# Altium footprint library ICS-40300.PcbLib: 1 footprints
Each footprint in its own frame and in the unit in brackets; x right, y up, seen from the top. Pads: shape width x height; smd on the part's side, far side on the other; paste and mask are expansions set on the pad; w line width, h text height; cw(c..) or ccw(c..) is an arc to the next point about the centre after c.
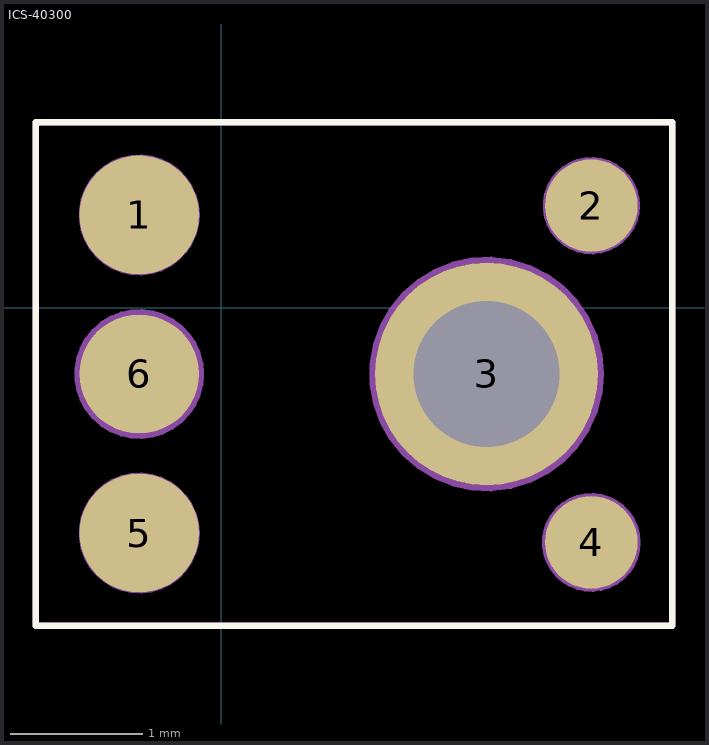
[diagram p0: the footprint, top view; thin cyan lines are the x and y axes]

## ICS-40300 [mm]
pads (7):
  round 0.9 smd mask+0: 1(-0.62,0.7) 5(-0.62,-1.7) 6(-0.62,-0.5)
  round 0.7 smd mask+0: 2(2.79,0.77) 4(2.79,-1.77)
  round 1.68 smd mask+0: 3(2,-0.5)
  round 0.9 hole 1.1 mask+0: ""(2,-0.5)
Top Overlay:
  lines w0.05: -1.4,-2.4 3.4,-2.4 3.4,0 3.4,1.4 -1.4,1.4 -1.4,-2.4
Mechanical 3:
  lines w0.05: -1.4,-2.4 3.4,-2.4 3.4,1.4 -1.4,1.4 -1.4,-2.4
Mechanical 5:
  circle w0.05: c2,-0.5 r0.86
  circle w0.05: c2.79,-1.77 r0.348
  circle w0.05: c2.79,0.77 r0.342
  circle w0.05: c-0.62,0.7 r0.432
  circle w0.05: c-0.62,-0.5 r0.465
  circle w0.05: c-0.62,-1.7 r0.432
Mechanical 7:
  lines w0.05: -1.4,-2.4 -1.4,1.4 3.4,1.4 3.4,-2.4 -1.4,-2.4
Mechanical 9:
  text "'.Designator'" at -2.1,-1.7 h1
3D body "Mic_InvenSense_ICS-40300_eec.STEP": height 3.31, standoff 0, extent -1.36,-2.38 3.36,1.38
3D body: height 1, standoff 0, extent -1.4,-2.4 3.4,1.4